# EAGLE library part TJA1040 (library ELE4000_BMS)
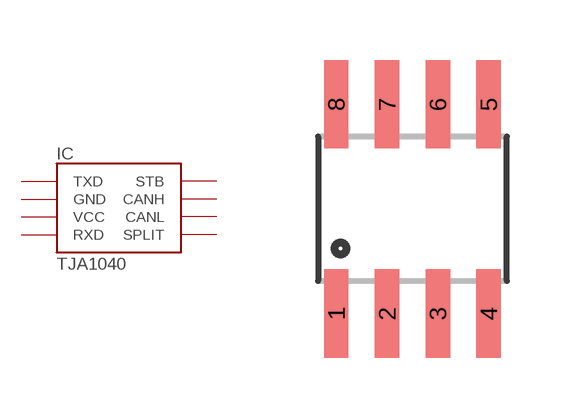
[diagram p0: symbol with the pads of SO8; footprint SO8]

Designator prefix IC

## TJA1040  [SO8]
1  TXD
2  GND
3  VCC
4  RXD
5  SPLIT
6  CANL
7  CANH
8  STB

## Footprint SO8 (pad centres in mm)
smd 0.61 x 2.21: 1 -1.905,-2.616; 2 -0.635,-2.616; 3 0.635,-2.616; 4 1.905,-2.616; 5 1.905,2.616; 6 0.635,2.616; 7 -0.635,2.616; 8 -1.905,2.616